# Altium footprint library LC-DIP-16.PcbLib: 1 footprints
Each footprint in its own frame and in the unit in brackets; x right, y up, seen from the top. Pads: shape width x height; smd on the part's side, far side on the other; paste and mask are expansions set on the pad; w line width, h text height; cw(c..) or ccw(c..) is an arc to the next point about the centre after c.
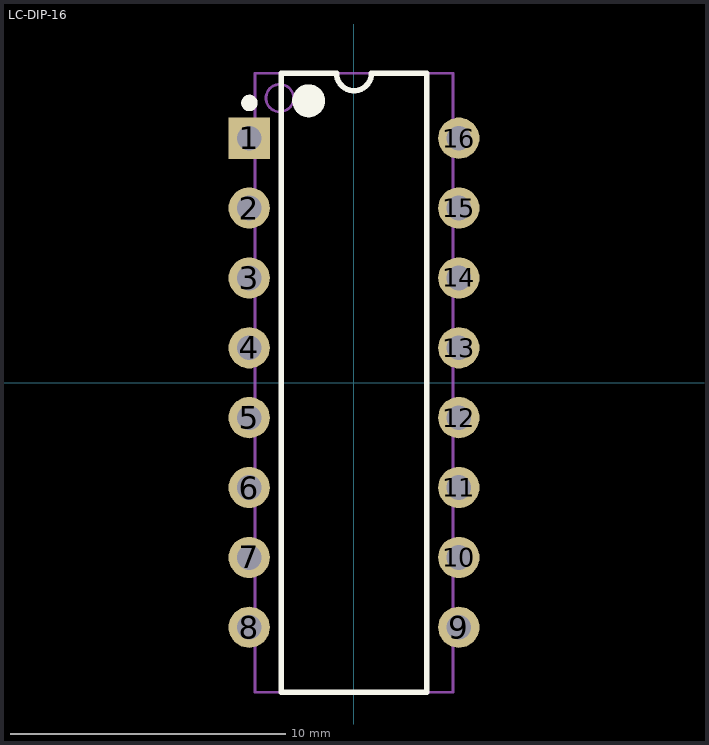
[diagram p0: the footprint, top view; thin cyan lines are the x and y axes]

## LC-DIP-16 [mm]
pads (16):
  rect 1.5x1.5 hole 0.9: 1(-3.81,8.89)
  round 1.5 hole 0.9: 2(-3.81,6.35) 3(-3.81,3.81) 4(-3.81,1.27) 5(-3.81,-1.27) 6(-3.81,-3.81) 7(-3.81,-6.35) 8(-3.81,-8.89) 9(3.81,-8.89) 10(3.81,-6.35) 11(3.81,-3.81) 12(3.81,-1.27) 13(3.81,1.27) 14(3.81,3.81) 15(3.81,6.35) 16(3.81,8.89)
Top Overlay:
  circle w0.6: c-1.65,10.25 r0.3
  circle w0.3: c-3.8,10.17 r0.15
  lines w0.2: -2.65,-11.25 2.65,-11.25 2.65,11.25 0.635,11.25 cw(c0,11.25) -0.635,11.25 -2.65,11.25 -2.65,-11.25
Mechanical 13:
  circle w0.1: c-2.7,10.35 r0.5
  lines w0.1: -3.6,-11.25 3.6,-11.25 3.6,11.25 -3.6,11.25 -3.6,-11.25